# EAGLE library part 692221030100 (library 692221030100)
WR-COM USB 3.0 Connector B horizontal Wurth Elektronik Right Angle PCB Mount Mount Female Version 3.0 Type B USB Connector, 30 V ac, 0.25A Source: Datasheet <http://katalog.we-online.de/em/datasheet/692221030100.pdf>
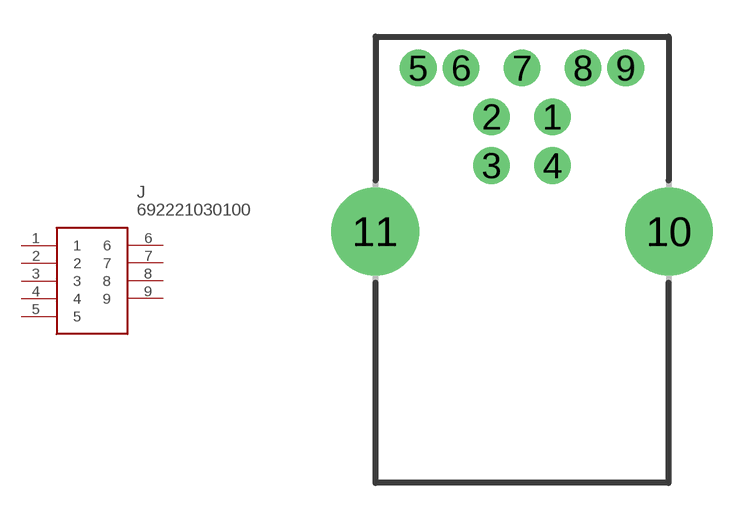
[diagram p0: symbol with the pads of WR-COM_USB_TYPE_B; footprint WR-COM_USB_TYPE_B]

Designator prefix J

## 692221030100 (Description: WR-COM USB 3.0 Connector B horizontal Wurth Elektronik Right Angle PCB Mount Mount Female Version 3.0 Type B USB Connector, 30 V ac, 0.25A; Height: mm; Manufacturer_Name: Wurth Elektronik; Manufacturer_Part_Number: 692221030100; Mouser_Part_Number: 710-692221030100; Mouser_Price-Stock: https://www.mouser.co.uk/ProductDetail/Wurth-Elektronik/692221030100?qs=e5m3IbTHPW%2F1T4qlB0JfxA%3D%3D)  [WR-COM_USB_TYPE_B]
1  1
2  2
3  3
4  4
5  5
6  6
7  7
8  8
9  9

## Footprint WR-COM_USB_TYPE_B (pad centres in mm)
WR-COM_USB_TYPE_B
drill 0.97 pad 1.5: 1 1.25,4.71; 2 -1.25,4.71; 3 -1.25,2.71; 4 1.25,2.71; 5 -4.25,6.71; 6 -2.5,6.71; 7 0,6.71; 8 2.5,6.71; 9 4.25,6.71
drill 2.4 pad 3.6: 10 6.02,0; 11 -6.02,0